# EAGLE library part S15B-PH-SM4-TB (library untitled)
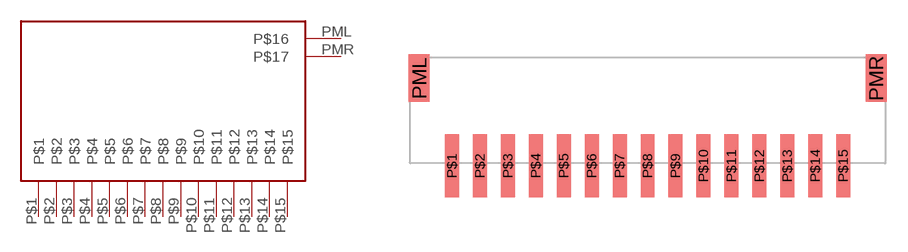
[diagram p27: symbol with the pads of S15B-PH-SM4-TB; footprint S15B-PH-SM4-TB]

Designator prefix -

## S15B-PH-SM4-TB  [S15B-PH-SM4-TB]
P$1  P$1
P$2  P$2
P$3  P$3
P$4  P$4
P$5  P$5
P$6  P$6
P$7  P$7
P$8  P$8
P$9  P$9
P$10  P$10
P$11  P$11
P$12  P$12
P$13  P$13
P$14  P$14
P$15  P$15
PML  P$16
PMR  P$17

## Footprint S15B-PH-SM4-TB (pad centres in mm)
smd 1 x 4.5: P$1 -14,-7.75; P$2 -12,-7.75; P$3 -10,-7.75; P$4 -8,-7.75; P$5 -6,-7.75; P$6 -4,-7.75; P$7 -2,-7.75; P$8 0,-7.75; P$9 2,-7.75; P$10 4,-7.75; P$11 6,-7.75; P$12 8,-7.75; P$13 10,-7.75; P$14 12,-7.75; P$15 14,-7.75
smd 1.5 x 3.4: PML -16.35,-1.5; PMR 16.35,-1.5